# Altium footprint library CustomParts.PcbLib: 55 footprints (part 4 of 4)
Each footprint in its own frame and in the unit in brackets; x right, y up, seen from the top. Pads: shape width x height; smd on the part's side, far side on the other; paste and mask are expansions set on the pad; w line width, h text height; cw(c..) or ccw(c..) is an arc to the next point about the centre after c.
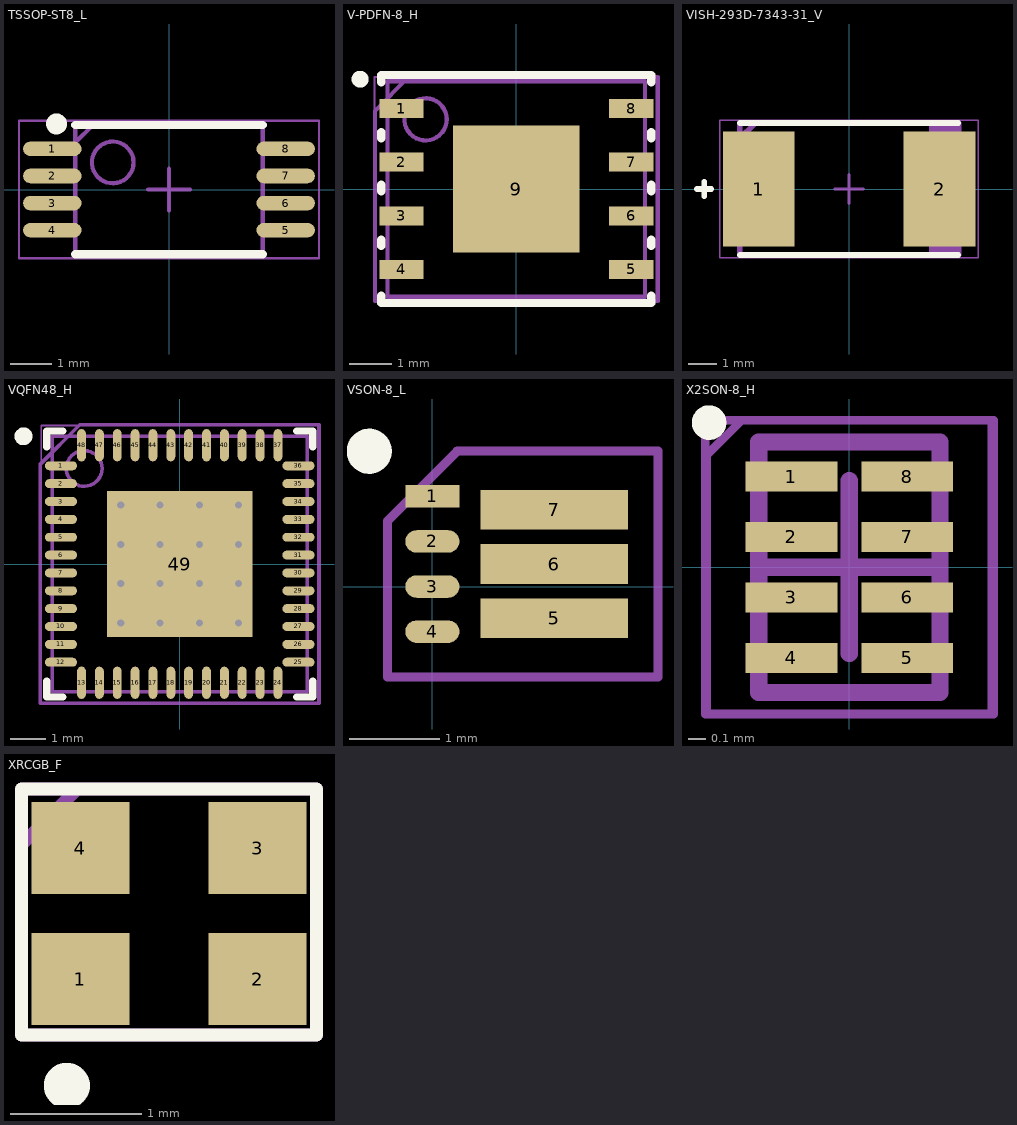
[diagram p3: the footprints below, top view; thin cyan lines are the x and y axes]

## TSSOP-ST8_L [mm] "TSOP, 8-Leads, Body 3x4.4mm, Pitch 0.65mm, IPC High Density"
height 1.2
pads (8):
  oval 1.4x0.35 smd: 1(-2.8,0.975) 2(-2.8,0.325) 3(-2.8,-0.325) 4(-2.8,-0.975) 5(2.8,-0.975) 6(2.8,-0.325) 7(2.8,0.325) 8(2.8,0.975)
Top Overlay:
  circle w0.25: c-2.7,1.575 r0.125
  lines w0.2: -2.25,-1.55 2.25,-1.55 ; -2.25,1.55 2.25,1.55
Mechanical 13:
  circle w0.1: c-1.35,0.65 r0.5
  lines w0.1: -2.25,-1.55 2.25,-1.55 2.25,1.55 -2.25,1.55 -2.25,-1.55
Mechanical 15:
  lines w0.05: -3.6,-1.65 3.6,-1.65 3.6,1.65 -3.6,1.65 -3.6,-1.65
  lines w0.1: -0.5,0 0.5,0 ; 0,-0.5 0,0.5
Assembly Drawing:
  lines w0.1: -2.25,-1.55 2.25,-1.55 2.25,1.55 -1.825,1.55 -2.25,1.125 -2.25,-1.55
  text ".Designator" at -1.092,-0.508 h1
3D body: height 1.2, standoff 0.05, extent -2.25,-1.55 2.25,1.55

## V-PDFN-8_H [mm] "SON, 8-Leads, Body 5.00x6.00mm, Pitch 1.27mm, Thermal Pad 3.00x3.00mm, IPC High Density"
height 0.8
pads (9):
  rect 1.05x0.45 smd: 1(-2.72,1.905) 2(-2.72,0.635) 3(-2.72,-0.635) 4(-2.72,-1.905) 5(2.72,-1.905) 6(2.72,-0.635) 7(2.72,0.635) 8(2.72,1.905)
  rect 3x3 smd paste-1.5: 9(0,0)
Top Overlay:
  circle w0.3: c-3.7,2.6 r0.05
  lines w0.2: -3.2,-2.53 -3.2,-2.7 -2.295,-2.7 2.295,-2.7 3.2,-2.7 3.2,-2.53 ; -3.2,-1.35 -3.2,-1.2 ; -3.2,-0.05 -3.2,0.1 ; -3.2,1.2 -3.2,1.35 ; -3.2,2.53 -3.2,2.7 -2.295,2.7 2.295,2.7 3.2,2.7 3.2,2.53 ; 3.2,-1.35 3.2,-1.2 ; 3.2,-0.05 3.2,0.1 ; 3.2,1.2 3.2,1.35
Top Paste:
  rectangle: 0.1,-1.4 1.4,-0.1
  rectangle: 0.1,0.1 1.4,1.4
  rectangle: -1.4,-1.4 -0.1,-0.1
  rectangle: -1.4,0.1 -0.1,1.4
Mechanical 13:
  circle w0.1: c-2.15,1.65 r0.5
  lines w0.1: -3.05,-2.55 3.05,-2.55 3.05,2.55 -3.05,2.55 -3.05,-2.55
Mechanical 15:
  lines w0.05: -3.355,-2.65 3.355,-2.65 3.355,2.65 -3.355,2.65 -3.355,-2.65
  lines w0.1: -0.5,0 0.5,0 ; 0,-0.5 0,0.5
Assembly Drawing:
  lines w0.1: -3.35,-2.65 3.35,-2.65 3.35,2.65 -2.55,2.65 -3.35,1.85 -3.35,-2.65
  text ".Designator" at -1.45,-0.6 h1.5
3D body "V-PDFN-8_H.step": height 0.8, standoff 0, extent -3.07,-2.55 3.07,2.55

## VISH-293D-7343-31_V [mm] "Molded Capacitor, 2-Leads, Body 7.6x4.6mm"
height 3.1
pads (2):
  rect 2.5x4 smd: 1(-3.15,0) 2(3.15,0)
Top Overlay:
  lines w0.2: -5.3,0 -4.8,0 ; -5.05,-0.25 -5.05,0.25 ; -3.8,-2.3 3.8,-2.3 ; -3.8,2.3 3.8,2.3
Mechanical 13:
  region: 3.8,2.3 2.778,2.3 2.778,-2.3 3.8,-2.3
  lines w0.1: -3.8,-2.3 -3.8,2.3 3.8,2.3 3.8,-2.3 -3.8,-2.3
Mechanical 15:
  lines w0.05: -4.5,-2.4 -4.5,2.4 4.5,2.4 4.5,-2.4 -4.5,-2.4
  lines w0.1: -0.5,0 0.5,0 ; 0,-0.5 0,0.5
Assembly Drawing:
  lines w0.2: -3.81,1.727 -3.81,1.753 -3.277,2.286 ; -3.81,-2.286 -3.81,2.286 3.81,2.286 3.81,-2.286 -3.81,-2.286
  text ".Designator" at -0.965,-0.381 h1
3D body "CAPMP7343X31L.step": height 3.1, standoff 0, extent -4.02,-2.3 4.02,2.3

## VQFN48_H [mm] "QFN, 48-Leads, Body 7.00x7.00mm, Pitch 0.50mm, Thermal Pad 4.08x4.08mm, IPC High Density"
height 1
pads (49):
  oval 0.9x0.25 smd: 1(-3.325,2.75) 2(-3.325,2.25) 3(-3.325,1.75) 4(-3.325,1.25) 5(-3.325,0.75) 6(-3.325,0.25) 7(-3.325,-0.25) 8(-3.325,-0.75) 9(-3.325,-1.25) 10(-3.325,-1.75) 11(-3.325,-2.25) 12(-3.325,-2.75) 25(3.325,-2.75) 26(3.325,-2.25) 27(3.325,-1.75) 28(3.325,-1.25) 29(3.325,-0.75) 30(3.325,-0.25) 31(3.325,0.25) 32(3.325,0.75) 33(3.325,1.25) 34(3.325,1.75) 35(3.325,2.25) 36(3.325,2.75)
  oval 0.25x0.9 smd: 13(-2.75,-3.325) 14(-2.25,-3.325) 15(-1.75,-3.325) 16(-1.25,-3.325) 17(-0.75,-3.325) 18(-0.25,-3.325) 19(0.25,-3.325) 20(0.75,-3.325) 21(1.25,-3.325) 22(1.75,-3.325) 23(2.25,-3.325) 24(2.75,-3.325) 37(2.75,3.325) 38(2.25,3.325) 39(1.75,3.325) 40(1.25,3.325) 41(0.75,3.325) 42(0.25,3.325) 43(-0.25,3.325) 44(-0.75,3.325) 45(-1.25,3.325) 46(-1.75,3.325) 47(-2.25,3.325) 48(-2.75,3.325)
  rect 4.08x4.08 smd: 49(0,0)
via -1.65,1.65 diameter 0.5 hole 0.2
via -0.55,1.65 diameter 0.5 hole 0.2
via 0.55,1.65 diameter 0.5 hole 0.2
via 1.65,1.65 diameter 0.5 hole 0.2
via -1.65,0.55 diameter 0.5 hole 0.2
via -0.55,0.55 diameter 0.5 hole 0.2
via 0.55,0.55 diameter 0.5 hole 0.2
via 1.65,0.55 diameter 0.5 hole 0.2
via -1.65,-0.55 diameter 0.5 hole 0.2
via -0.55,-0.55 diameter 0.5 hole 0.2
via 0.55,-0.55 diameter 0.5 hole 0.2
via 1.65,-0.55 diameter 0.5 hole 0.2
via -1.65,-1.65 diameter 0.5 hole 0.2
via -0.55,-1.65 diameter 0.5 hole 0.2
via 0.55,-1.65 diameter 0.5 hole 0.2
via 1.65,-1.65 diameter 0.5 hole 0.2
Top Overlay:
  circle w0.25: c-4.375,3.575 r0.125
  lines w0.2: -3.725,-3.275 -3.725,-3.725 -3.275,-3.725 ; -3.725,3.275 -3.725,3.725 -3.275,3.725 ; 3.275,-3.725 3.725,-3.725 3.725,-3.275 ; 3.275,3.725 3.725,3.725 3.725,3.275
Mechanical 13:
  circle w0.1: c-2.675,2.675 r0.5
  lines w0.1: -3.575,-3.575 -3.575,3.575 3.575,3.575 3.575,-3.575 -3.575,-3.575
Mechanical 15:
  lines w0.05: -3.875,-3.875 -3.875,3.875 3.875,3.875 3.875,-3.875 -3.875,-3.875
  lines w0.1: -0.5,0 0.5,0 ; 0,-0.5 0,0.5
Assembly Drawing:
  lines w0.1: -3.9,-3.9 3.9,-3.9 3.9,3.9 -2.8,3.9 -3.9,2.8 -3.9,-3.9
  text ".Designator" at -1.165,-0.481 h1
3D body: height 1, standoff 0.08, extent -3.575,-3.575 3.575,3.575

## VSON-8_L [mm]
height 1
pads (7):
  rect 0.6x0.25 smd mask+0.07: 1(0,1)
  oval 0.6x0.25 smd mask+0.07: 2(0,0.5) 3(0,0) 4(0,-0.5)
  rect 1.64x0.44 smd paste-0.09 mask-0.07: 5(1.35,-0.35) 6(1.35,0.25) 7(1.35,0.85)
Top Overlay:
  circle w0.25: c-0.7,1.5 r0.125
Assembly Drawing:
  lines w0.1: -0.5,-1 -0.5,0.725 0.275,1.5 2.5,1.5 2.5,-1 -0.5,-1
  text ".Designator" at 0.25,0 h0.5
3D body: height 1, standoff 0, extent -0.05,-0.75 1.95,1.25

## X2SON-8_H [mm] "SON, 8-Leads, Body 1.40x1.00mm, Pitch 0.35mm, IPC High Density"
height 0.4
pads (8):
  rect 0.53x0.175 smd mask+0: 1(-0.335,0.525) 2(-0.335,0.175) 3(-0.335,-0.175) 4(-0.335,-0.525) 5(0.335,-0.525) 6(0.335,-0.175) 7(0.335,0.175) 8(0.335,0.525)
Top Overlay:
  circle w0.1: c-0.812,0.837 r0.05
Mechanical 13:
  lines w0.1: -0.525,-0.725 -0.525,0.725 0.525,0.725 0.525,-0.725 -0.525,-0.725
Mechanical 15:
  lines w0.05: -0.835,-0.85 -0.835,0.85 0.835,0.85 0.835,-0.85 -0.835,-0.85
  lines w0.1: -0.5,0 0.5,0 ; 0,-0.5 0,0.5
Assembly Drawing:
  lines w0.05: -0.825,-0.85 0.825,-0.85 0.825,0.85 -0.625,0.85 -0.825,0.65 -0.825,-0.85
  text ".Designator" at -0.65,-0.2 h0.5
3D body: height 0.4, standoff 0.05, extent -0.525,-0.725 0.525,0.725

## XRCGB_F [mm] "Murata XRCGB_F footprint"
height 0.65
pads (4):
  rect 0.75x0.7 smd paste-0.07 mask-0.07: 1(-1232.05,-1243.025) 2(-1230.7,-1243.025) 3(-1230.7,-1242.025) 4(-1232.05,-1242.025)
Top Overlay:
  circle w0.3: c-1232.154,-1243.838 r0.025
  lines w0.1: -1232.5,-1243.45 -1232.5,-1241.575 -1230.25,-1241.575 -1230.25,-1243.45 -1232.5,-1243.45
Mechanical 7:
  lines w0.1: -1232.5,-1243.45 -1232.5,-1241.575 -1230.25,-1241.575 -1230.25,-1243.45 -1232.5,-1243.45
Assembly Drawing:
  lines w0.1: -1232.5,-1243.45 -1232.5,-1242 -1232.075,-1241.575 -1230.25,-1241.575 -1230.25,-1243.45 -1232.5,-1243.45
  text ".Designator" at -1232.1,-1242.725 h0.5
3D body: height 0.7, standoff 0, extent -1232.375,-1243.325 -1230.375,-1241.725